# EAGLE library part TPA6130A2RTJR (library TPA6130A2RTJR)
TEXAS INSTRUMENTS - TPA6130A2RTJR . - Audio Power Amplifier, 138 mW, AB, 2 Channel, 2.5V to 5.5V, QFN, 20 Pins Source: Datasheet <https://www.ti.com/lit/ds/symlink/tpa6130a2.pdf>
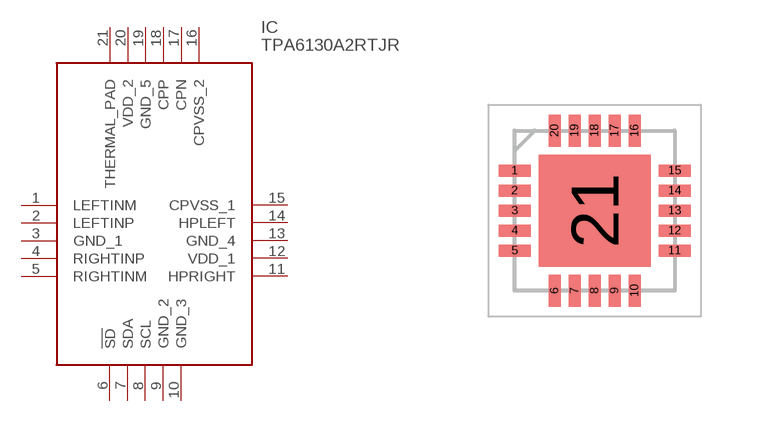
[diagram p0: symbol with the pads of QFN50P400X400X80-21N; footprint QFN50P400X400X80-21N]

Designator prefix IC

## TPA6130A2RTJR (Description: TEXAS INSTRUMENTS - TPA6130A2RTJR . - Audio Power Amplifier, 138 mW, AB, 2 Channel, 2.5V to 5.5V, QFN, 20 Pins; Height: 0.8mm; Manufacturer_Name: Texas Instruments; Manufacturer_Part_Number: TPA6130A2RTJR; Mouser_Part_Number: 595-TPA6130A2RTJR; Mouser_Price-Stock: https://www.mouser.co.uk/ProductDetail/Texas-Instruments/TPA6130A2RTJR?qs=7kv20MEVUlgikVnGJs4DSg%3D%3D)  [QFN50P400X400X80-21N]
1  LEFTINM  in
2  LEFTINP  in
3  GND_1  pwr
4  RIGHTINP  in
5  RIGHTINM  in
6  !SD  in
7  SDA
8  SCL  in
9  GND_2  pwr
10  GND_3  pwr
11  HPRIGHT  out
12  VDD_1  pwr
13  GND_4  pwr
14  HPLEFT  out
15  CPVSS_1  pwr
16  CPVSS_2  pwr
17  CPN  pwr
18  CPP  pwr
19  GND_5  pwr
20  VDD_2  pwr
21  THERMAL_PAD  pwr

## Footprint QFN50P400X400X80-21N (pad centres in mm)
S-PWQFN-N20
smd 0.8 x 0.3: 1 -2,1; 2 -2,0.5; 3 -2,0; 4 -2,-0.5; 5 -2,-1; 11 2,-1; 12 2,-0.5; 13 2,0; 14 2,0.5; 15 2,1
smd 0.3 x 0.8: 6 -1,-2; 7 -0.5,-2; 8 0,-2; 9 0.5,-2; 10 1,-2; 16 1,2; 17 0.5,2; 18 0,2; 19 -0.5,2; 20 -1,2
smd 2.8 x 2.8: 21 0,0